# Altium schematic symbol library HC-SR04.SchLib: 1 symbol
Pins are listed as number, name and electrical type; pins without a type are passive.

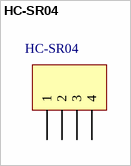
[diagram p0: symbol HC-SR04]

## HC-SR04
designator HC-SR04  (value not drawn)
footprint HC-SR04
pins: 1, 2, 3, 4